# Altium footprint library NCV8730.PcbLib: 1 footprints
Each footprint in its own frame and in the unit in brackets; x right, y up, seen from the top. Pads: shape width x height; smd on the part's side, far side on the other; paste and mask are expansions set on the pad; w line width, h text height; cw(c..) or ccw(c..) is an arc to the next point about the centre after c.
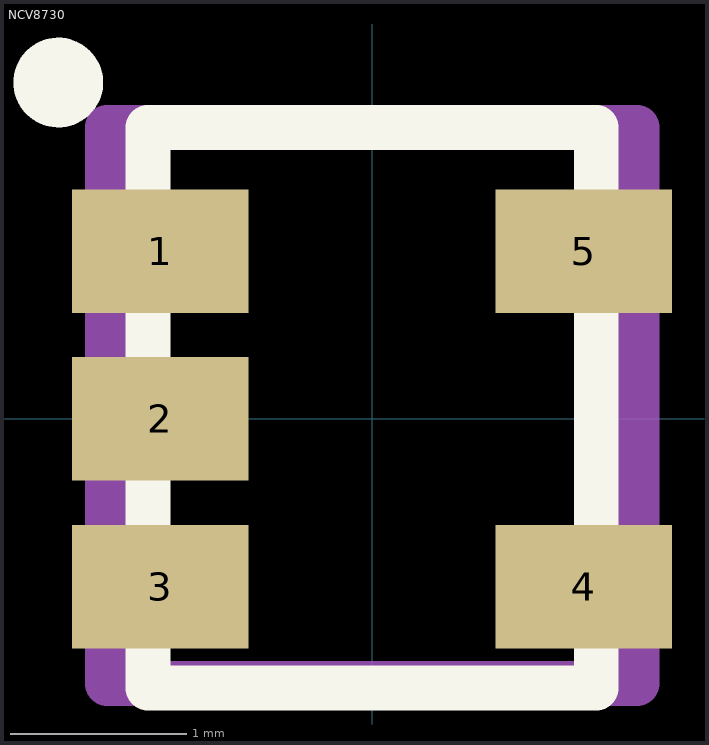
[diagram p0: the footprint, top view; thin cyan lines are the x and y axes]

## NCV8730 [mm]
pads (5):
  rect 1x0.7 smd: 1(-1.2,0.95) 2(-1.2,0) 3(-1.2,-0.95) 4(1.2,-0.95) 5(1.2,0.95)
Top Overlay:
  circle w0.254: c-1.778,1.905 r0.127
  lines w0.254: -1.27,-1.524 1.27,-1.524 1.27,1.651 -1.27,1.651 -1.27,-1.524
Mechanical 1:
  lines w0.254: -1.5,-1.5 -1.5,1.651 1.5,1.651 1.5,-1.5 -1.5,-1.5
3D body: height 1, standoff 0, extent -1.5,-1.5 1.5,1.5